# Altium footprint library PCB - RF FILTER - JOHANSON 0900LP15B0063001E.PCBLIB: 1 footprints
Each footprint in its own frame and in the unit in brackets; x right, y up, seen from the top. Pads: shape width x height; smd on the part's side, far side on the other; paste and mask are expansions set on the pad; w line width, h text height; cw(c..) or ccw(c..) is an arc to the next point about the centre after c.
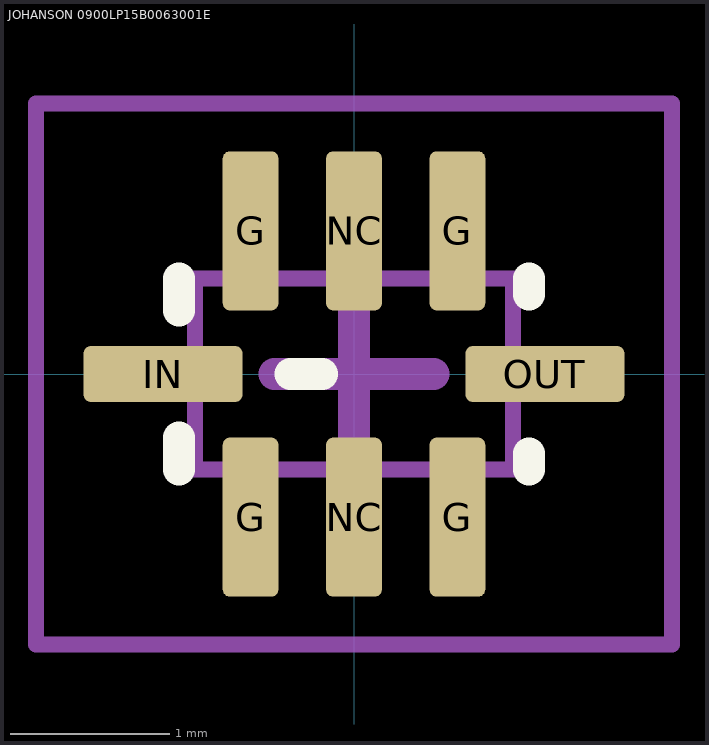
[diagram p0: the footprint, top view; thin cyan lines are the x and y axes]

## JOHANSON 0900LP15B0063001E [mm] "Ceramic filter, Sub-1GHz"
height 1.05
pads (8):
  rrect25% 0.35x1 smd: G(-0.65,-0.9) G(-0.65,0.9) G(0.65,-0.9) G(0.65,0.9) NC(0,-0.9) NC(0,0.9)
  rrect25% 1x0.35 smd: IN(-1.2,0) OUT(1.2,0)
Top Overlay:
  lines w0.2: -1.1,-0.6 -1.1,-0.4 ; -1.1,0.4 -1.1,0.6 ; -0.4,0 -0.2,0 ; 1.1,-0.6 1.1,-0.5 ; 1.1,0.5 1.1,0.6
Mechanical 1:
  lines w0.1: -1,-0.6 1,-0.6 1,0.6 -1,0.6 -1,-0.6
Mechanical 15:
  lines w0.1: -2,-1.7 -2,1.7 2,1.7 2,-1.7 -2,-1.7
  lines w0.2: -0.5,0 0.5,0 ; 0,-0.5 0,0.5
3D body "Johanson 0900LP15B0063001E.step": height 1.05, standoff 0, extent -1.01,-0.635 1.01,0.635